# Altium schematic symbol library ESP32_30.SchLib: 1 symbol
Pins are listed as number, name and electrical type; pins without a type are passive.

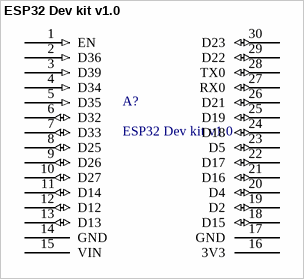
[diagram p0: symbol ESP32 Dev kit v1.0]

## ESP32 Dev kit v1.0
designator A?
ESP 32, development kit v1.0 (30 pines); Manufacturer: Espressif
pins: 1 EN (in), 2 D36 (in), 3 D39 (in), 4 D34 (in), 5 D35 (in), 6 D32 (io), 7 D33 (io), 8 D25 (io), 9 D26 (io), 10 D27 (io), 11 D14 (io), 12 D12 (io), 13 D13 (io), 14 GND (power), 15 VIN (power), 16 3V3 (power), 17 GND (power), 18 D15 (io), 19 D2 (io), 20 D4 (io), 21 D16 (io), 22 D17 (io), 23 D5 (io), 24 D18 (io), 25 D19 (io), 26 D21 (io), 27 RX0 (io), 28 TX0 (io), 29 D22 (io), 30 D23 (io)